# EAGLE library part TXB0108DQSR (library TXB0108)
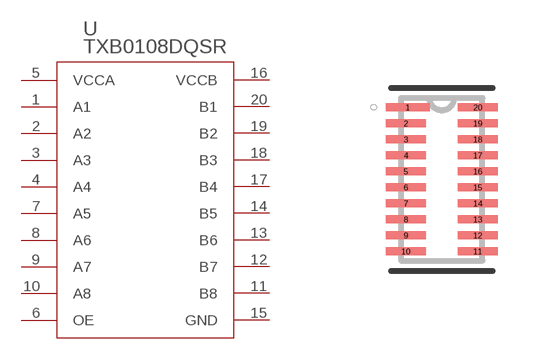
[diagram p0: symbol with the pads of DQS20; footprint DQS20]

Designator prefix U

## TXB0108DQSR (MANUFACTURER_PART_NUMBER: TXB0108DQSR; VENDOR: Texas Instruments)  [DQS20]
1  A1
2  A2
3  A3
4  A4
5  VCCA  pwr
6  OE  in
7  A5
8  A6
9  A7
10  A8
11  B8
12  B7
13  B6
14  B5
15  GND  pwr
16  VCCB  pwr
17  B4
18  B3
19  B2
20  B1

## Footprint DQS20 (pad centres in mm)
smd 1.1 x 0.2: 1 -0.85,1.8
smd 1 x 0.2: 2 -0.9,1.4; 3 -0.9,1; 4 -0.9,0.6; 5 -0.9,0.2; 6 -0.9,-0.2; 7 -0.9,-0.6; 8 -0.9,-1; 9 -0.9,-1.4; 10 -0.9,-1.8; 11 0.9,-1.8; 12 0.9,-1.4; 13 0.9,-1; 14 0.9,-0.6; 15 0.9,-0.2; 16 0.9,0.2; 17 0.9,0.6; 18 0.9,1; 19 0.9,1.4; 20 0.9,1.8